# Altium footprint library DX_test_PcbLib1.PcbLib: 36 footprints (part 2 of 3)
Each footprint in its own frame and in the unit in brackets; x right, y up, seen from the top. Pads: shape width x height; smd on the part's side, far side on the other; paste and mask are expansions set on the pad; w line width, h text height; cw(c..) or ccw(c..) is an arc to the next point about the centre after c.
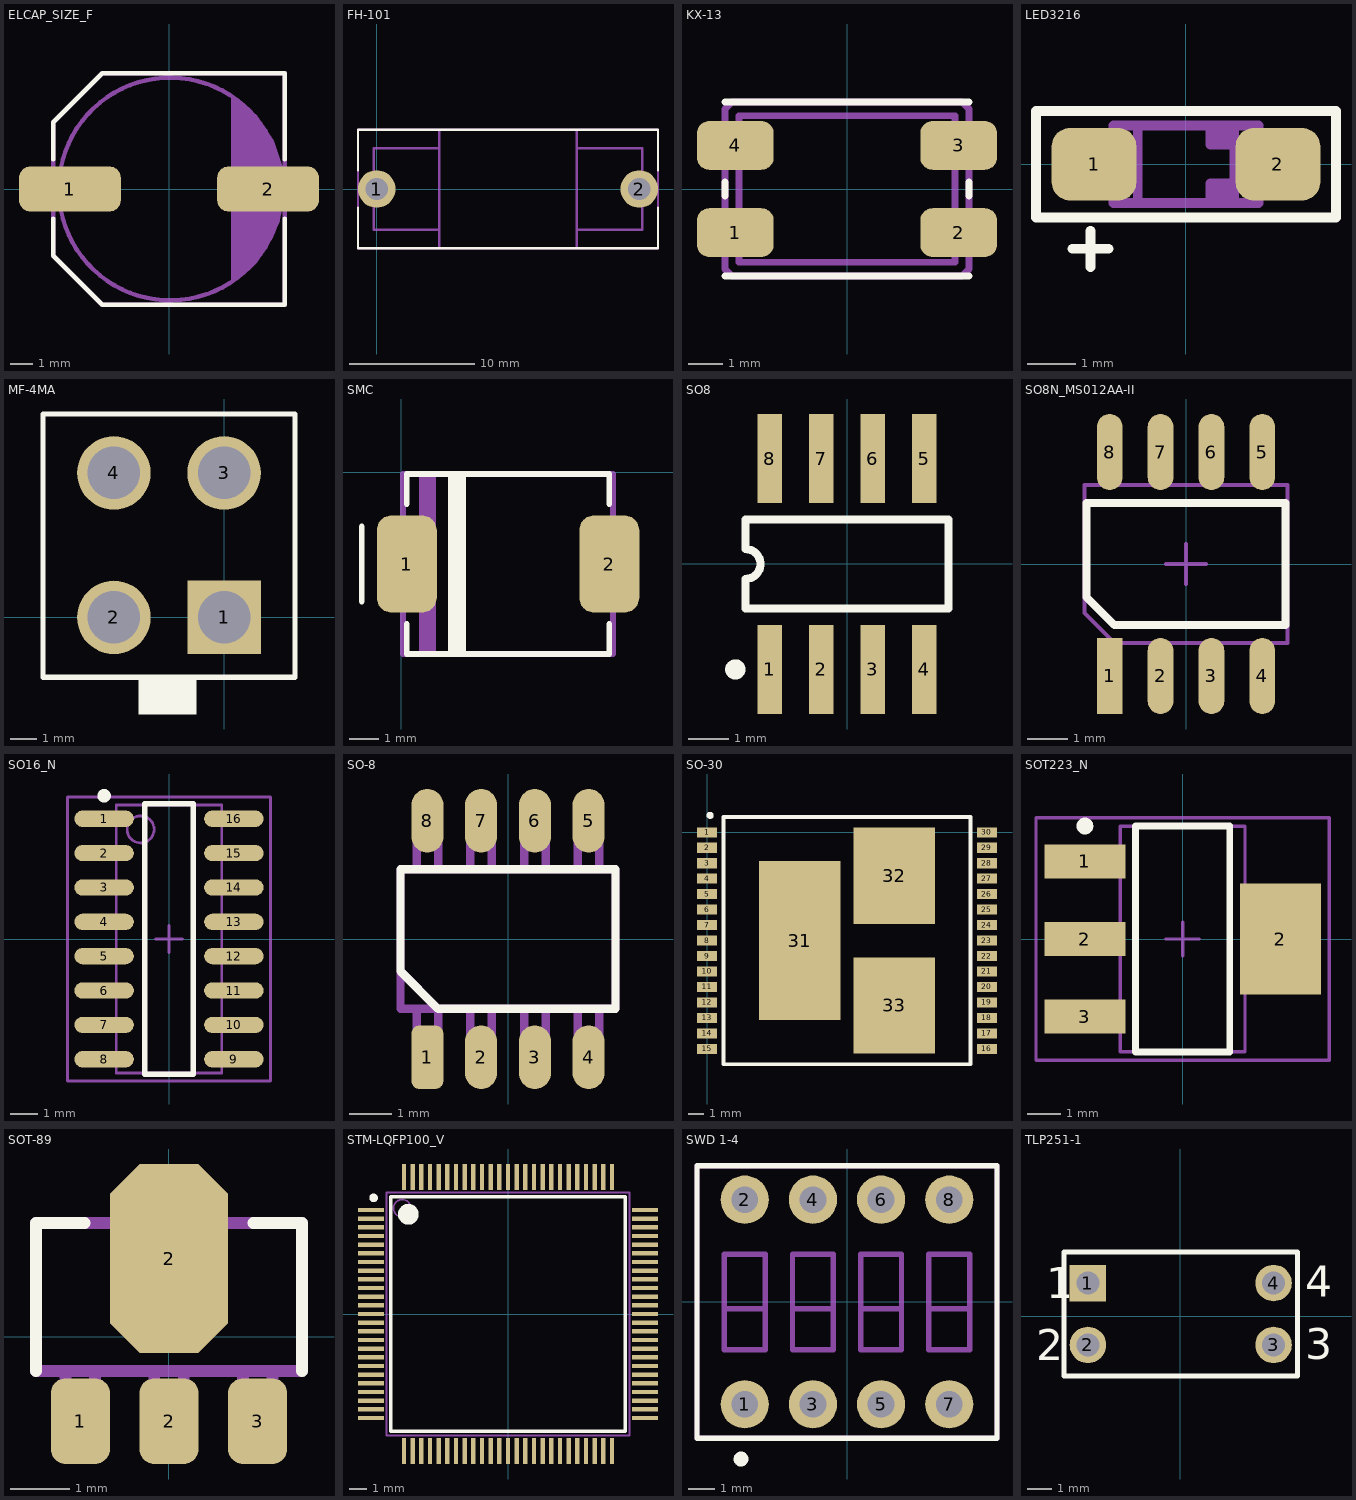
[diagram p1: the footprints below, top view; thin cyan lines are the x and y axes]

## ELCAP_SIZE_F [mm]
height 10.5
pads (2):
  rrect50% 4.57x2.03 smd: 1(-4.45,0) 2(4.45,0)
Top Overlay:
  lines w0.2: -5.2,-1.325 -5.2,-3 -3,-5.2 5.2,-5.2 5.2,-1.325 ; -5.2,1.325 -5.2,3 -3,5.2 5.2,5.2 5.2,1.325
Mechanical 1:
  circle w0.2: c0.055,0 r5
  region: 2.805,4.175 2.805,-4.25 3.429,-3.81 3.937,-3.302 4.445,-2.54 4.953,-1.524 5.08,-0.762 5.08,1.016 4.699,2.159 3.937,3.302 2.855,4.2
  lines w0.2: -5.2,-3 -3,-5.2 5.2,-5.2 5.2,5.2 -3,5.2 -5.2,3 -5.2,-3
3D body: height 10.41, standoff 0, extent -5.5,-5.2 5.5,5.2

## FH-101 [mm]
pads (2):
  round 3 hole 1.8: 1(0,0) 2(21,0)
Top Overlay:
  lines w0.2: -1.5,-1.5 -1.5,-4.75 22.5,-4.75 22.5,-1.5 ; -1.5,1.5 -1.5,4.75 22.5,4.75 22.5,1.5
Mechanical 1:
  lines w0.2: 5,-4.75 5,4.75 ; 5,-3.25 -0.25,-3.25 -0.25,3.25 5,3.25 ; 16,-4.75 16,4.75 ; 16,-3.25 21.25,-3.25 21.25,3.25 16,3.25 ; -1.5,-4.75 22.5,-4.75 22.5,4.75 -1.5,4.75 -1.5,-4.75
3D body: height 10.8, standoff -3, extent -1.625,-4.9 22.575,4.9

## KX-13 [mm]
pads (4):
  rrect50% 2.2x1.4 smd: 1(-3.2,-1.25) 2(3.2,-1.25) 3(3.2,1.25) 4(-3.2,1.25)
Top Overlay:
  lines w0.2: -3.5,-2.5 3.5,-2.5 ; -3.5,-0.2 -3.5,0.2 ; -3.5,2.5 3.5,2.5 ; 3.5,-0.2 3.5,0.2
Mechanical 1:
  lines w0.2: -3.5,-2.3 -3.3,-2.5 3.3,-2.5 3.5,-2.3 3.5,2.3 3.3,2.5 -3.3,2.5 -3.5,2.3 -3.5,-2.3 ; -3.1,-2.1 3.1,-2.1 3.1,2.1 -3.1,2.1 -3.1,-2.1
3D body: height 1.31, standoff 0, extent -3.5,-2.5 3.5,2.5

## LED3216 [mm]
height 1.1
pads (2):
  rrect50% 1.75x1.5 smd: 1(-1.9,0) 2(1.9,0)
Top Overlay:
  lines w0.2: -2.35,-1.75 -1.6,-1.75 ; -1.975,-2.125 -1.975,-1.375 ; -3.1,-1.1 -3.1,1.1 3.1,1.1 3.1,-1.1 -3.1,-1.1
Mechanical 1:
  lines w0.2: -1,-0.8 -1,0.8 ; 0.5,-0.8 0.5,-0.4 1,-0.4 ; 0.5,-0.6 1,-0.6 ; 0.5,0.6 1,0.6 ; 0.5,0.8 0.5,0.5 0.5,0.4 1,0.4 ; 1,-0.8 1,0.8 ; -1.5,-0.8 -1.5,0.8 1.5,0.8 1.5,-0.8 -1.5,-0.8
3D body: height 1.1, standoff 0, extent -1.6,-0.8 1.6,0.8

## MF-4MA [mm] "MF-4MA"
pads (4):
  rect 2.8x2.8 hole 2: 1(0,0)
  round 2.8 hole 2: 2(-4.2,0) 3(0,5.5) 4(-4.2,5.5)
Top Overlay:
  region: -3.259,-3.683 -3.259,-2.283 -1.059,-2.283 -1.059,-3.683
  lines w0.2: -6.9,-2.286 2.7,-2.286 2.7,7.747 -6.9,7.747 -6.9,-2.286
3D body: height 12.8, standoff -3.5, extent -7.3,-3.5 2.7,7.5

## SMC [mil] "SMC"
pads (2):
  rrect50% 80x130 smd: 1(7.13,-122.05) 2(277.13,-122.05)
Top Overlay:
  lines w7.87: -52.87,-172.05 -52.87,-72.05 ; 7.13,-202.05 7.13,-242.05 277.13,-242.05 277.13,-202.05 ; 7.13,-42.05 7.13,-2.05 277.13,-2.05 277.13,-42.05 ; 66.18,-242.05 66.18,-2.05 ; 74.06,-242.05 74.06,-2.05 ; 81.93,-242.05 81.93,-2.05
Mechanical 1:
  lines w7.87: 2.13,-181.1 -12.56,-181.1 -12.56,-62.99 2.13,-62.99 ; 27.13,-242.05 27.13,-2.05 ; 32.13,-242.05 32.13,-2.05 ; 37.13,-242.05 37.13,-2.05 ; 42.13,-242.05 42.13,-2.05 ; 282.13,-181.1 296.81,-181.1 296.81,-62.99 282.13,-62.99 ; 2.13,-242.05 282.13,-242.05 282.13,-2.05 2.13,-2.05 2.13,-242.05
3D body: height 90.73, standoff -0.02, extent -14.56,-238.19 298.44,-5.91

## SO8 [mm]
height 11.5
pads (8):
  rect 0.6x2.2 smd: 1(-1.905,-2.6) 2(-0.635,-2.6) 3(0.635,-2.6) 4(1.905,-2.6) 5(1.905,2.6) 6(0.635,2.6) 7(-0.635,2.6) 8(-1.905,2.6)
Top Overlay:
  circle w0.25: c-2.755,-2.6 r0.125
  lines w0.2: -2.5,-1.1 2.5,-1.1 2.5,1.1 -2.5,1.1 -2.5,0.367 cw(c-2.5,0) -2.5,-0.367 -2.5,-1.1

## SO8N_MS012AA-II [mm]
height 3.38
pads (8):
  rect 0.64x1.9 smd mask+0.075: 1(-1.905,-2.795)
  oval 0.64x1.9 smd mask+0.075: 2(-0.635,-2.795) 3(0.635,-2.795) 4(1.905,-2.795) 5(1.905,2.795) 6(0.635,2.795) 7(-0.635,2.795) 8(-1.905,2.795)
Top Overlay:
  lines w0.2: -2.489,-0.825 -2.489,1.524 2.489,1.524 2.489,-1.524 -1.79,-1.524 -2.489,-0.825
Mechanical 13:
  lines w0.1: -2.54,-1.22 -1.79,-1.97 2.54,-1.97 2.54,1.97 -2.54,1.97 -2.54,-1.22
Mechanical 15:
  lines w0.1: -0.5,0 0.5,0 ; 0,-0.5 0,0.5
3D body: height 3.61, standoff 0, extent -2.6,-2.03 2.6,2.03

## SO16_N [mm] "SOIC, 16-Leads, Body 9.9x3.9mm, Pitch 1.27mm, IPC Medium Density"
height 1.75
pads (16):
  oval 2.2x0.6 smd: 1(-2.4,4.445) 2(-2.4,3.175) 3(-2.4,1.905) 4(-2.4,0.635) 5(-2.4,-0.635) 6(-2.4,-1.905) 7(-2.4,-3.175) 8(-2.4,-4.445) 9(2.4,-4.445) 10(2.4,-3.175) 11(2.4,-1.905) 12(2.4,-0.635) 13(2.4,0.635) 14(2.4,1.905) 15(2.4,3.175) 16(2.4,4.445)
Top Overlay:
  circle w0.25: c-2.4,5.295 r0.125
  lines w0.2: -0.9,-5 -0.9,5 0.9,5 0.9,-5 -0.9,-5
Mechanical 13:
  circle w0.1: c-1.05,4.05 r0.5
  lines w0.1: -1.95,-4.625 -2.875,-4.625 -2.875,-4.275 -1.95,-4.275 ; -1.95,-3.35 -2.875,-3.35 -2.875,-3 -1.95,-3 ; -1.95,-2.075 -2.9,-2.075 -2.9,-1.725 -1.95,-1.725 ; -1.95,-0.8 -2.9,-0.8 -2.9,-0.45 -1.95,-0.45 ; -1.95,0.475 -2.9,0.475 -2.9,0.825 -1.95,0.825 ; -1.95,1.75 -2.9,1.75 -2.9,2.1 -1.95,2.1 ; -1.95,3 -2.9,3 -2.9,3.35 -1.95,3.35 ; -1.95,4.3 -2.9,4.3 -2.9,4.65 -1.95,4.65 ; 1.95,-4.6 2.9,-4.6 2.9,-4.25 1.95,-4.25 ; 1.95,-3.325 2.9,-3.325 2.9,-2.975 1.95,-2.975 ; 1.95,-2.025 2.9,-2.025 2.9,-1.675 1.95,-1.675 ; 1.95,-0.775 2.9,-0.775 2.9,-0.425 1.95,-0.425 ; 1.95,0.5 2.9,0.5 2.9,0.85 1.95,0.85 ; 1.95,1.775 2.9,1.775 2.9,2.125 1.95,2.125 ; 1.95,3.05 2.9,3.05 2.9,3.4 1.95,3.4 ; 1.95,4.325 2.875,4.325 2.875,4.675 1.95,4.675 ; -1.95,-4.95 -1.95,4.95 1.95,4.95 1.95,-4.95 -1.95,-4.95
  text ".Designator" at 0.6,-2.5 h3
Mechanical 15:
  lines w0.1: -0.5,0 0.5,0 ; 0,-0.5 0,0.5 ; -3.75,-5.25 -3.75,5.25 3.75,5.25 3.75,-5.25 -3.75,-5.25
3D body: height 1.75, standoff -0.02, extent -3.068,-4.985 3.068,4.985

## SO-8 [mm]
height 11.4
pads (8):
  rrect50% 0.76x1.5 smd: 1(-1.905,-2.794)
  oval 0.76x1.5 smd: 2(-0.635,-2.794) 3(0.635,-2.794) 4(1.905,-2.794) 5(1.905,2.794) 6(0.635,2.794) 7(-0.635,2.794) 8(-1.905,2.794)
Top Overlay:
  lines w0.2: -2.54,-0.762 -2.54,1.651 2.54,1.651 2.54,-1.651 -1.651,-1.651 -2.54,-0.762
Mechanical 1:
  lines w0.2: -2.54,-0.762 -1.651,-1.651 -1.651,-2.921 -2.159,-2.921 -2.159,-1.651 ; -2.159,1.651 -2.159,2.921 -1.651,2.921 -1.651,1.651 ; -0.889,-1.651 -0.889,-2.921 -0.381,-2.921 -0.381,-1.651 ; -0.889,1.651 -0.889,2.921 -0.381,2.921 -0.381,1.651 ; 0.381,-1.651 0.381,-2.921 0.889,-2.921 0.889,-1.651 ; 0.381,1.651 0.381,2.921 0.889,2.921 0.889,1.651 ; 1.651,-1.651 1.651,-2.921 2.159,-2.921 2.159,-1.651 ; 1.651,1.651 1.651,2.921 2.159,2.921 2.159,1.651 ; -2.54,-1.651 -2.54,1.651 2.54,1.651 2.54,-1.651 -2.54,-1.651
3D body: height 1.9, standoff 0, extent -2.504,-3.164 2.5,3.175

## SO-30 [mm]
pads (33):
  rect 1.3x0.65 smd: 1(0,0) 2(0,-1) 3(0,-2) 4(0,-3) 5(0,-4) 6(0,-5) 7(0,-6) 8(0,-7) 9(0,-8) 10(0,-9) 11(0,-10) 12(0,-11) 13(0,-12) 14(0,-13) 15(0,-14) 16(18.1,-14) 17(18.1,-13) 18(18.1,-12) 19(18.1,-11) 20(18.1,-10) 21(18.1,-9) 22(18.1,-8) 23(18.1,-7) 24(18.1,-6) 25(18.1,-5) 26(18.1,-4) 27(18.1,-3) 28(18.1,-2) 29(18.1,-1) 30(18.1,0)
  rect 5.25x10.3 smd: 31(6,-7)
  rect 5.25x6.23 smd: 32(12.1,-2.8) 33(12.1,-11.2)
Top Overlay:
  lines w0.254: 0.3,1.097 cw(c0.2,1.1) 0.3,1.11 ; 1.05,-15 17.05,-15 17.05,1 1.05,1 1.05,-15
3D body: height 2.27, standoff -0.19, extent -0.4,-15.6 18.6,1.6

## SOT223_N [mm] "SOT223, 4-Leads, Body 6.5x3.5mm, Pitch 2.3mm, Lead Span 7mm, IPC Medium Density"
height 1.7
pads (4):
  rect 2.4x1 smd: 1(-2.9,2.3) 2(-2.9,0) 3(-2.9,-2.3)
  rect 2.4x3.3 smd: 2(2.9,0)
Top Overlay:
  circle w0.25: c-2.9,3.35 r0.125
  lines w0.2: -1.4,-3.35 1.4,-3.35 1.4,3.35 -1.4,3.35 -1.4,-3.35
Mechanical 13:
  lines w0.1: -1.85,-3.35 1.85,-3.35 1.85,3.35 -1.85,3.35 -1.85,-3.35
Mechanical 15:
  lines w0.1: -0.5,0 0.5,0 ; 0,-0.5 0,0.5 ; -4.35,-3.6 4.35,-3.6 4.35,3.6 -4.35,3.6 -4.35,-3.6
3D body: height 1.7, standoff 0, extent -1.85,-3.35 1.85,3.35

## SOT-89 [mm]
pads (4):
  rrect50% 1x1.45 smd: 1(-1.5,-1.425) 2(0,-1.425) 3(1.5,-1.425)
  oct 2x3.2 smd: 2(0,1.325)
Top Overlay:
  lines w0.2: -2.25,-0.575 -2.25,1.925 -1.425,1.925 ; 1.425,1.925 2.25,1.925 2.25,-0.575
Mechanical 1:
  lines w0.2: -1.75,-0.575 -1.75,-1.575 -1.25,-1.575 -1.25,-0.575 ; -0.75,1.925 -0.75,2.175 -0.5,2.425 0.5,2.425 0.75,2.175 0.75,1.925 ; -0.25,-0.575 -0.25,-1.575 0.25,-1.575 0.25,-0.575 ; 1.25,-0.575 1.25,-1.575 1.75,-1.575 1.75,-0.575 ; -2.25,-0.575 -2.25,1.925 2.25,1.925 2.25,-0.575 -2.25,-0.575
3D body: height 1.51, standoff 0, extent -2.25,-1.625 2.25,2.675

## STM-LQFP100_V [mm] "Thin QFP, 100-Leads, Body 14x14mm, Pitch 0.5mm, ST Recommended"
height 1.6
pads (100):
  rect 1.5x0.25 smd mask+0.075: 1(-7.9,6) 2(-7.9,5.5) 3(-7.9,5) 4(-7.9,4.5) 5(-7.9,4) 6(-7.9,3.5) 7(-7.9,3) 8(-7.9,2.5) 9(-7.9,2) 10(-7.9,1.5) 11(-7.9,1) 12(-7.9,0.5) 13(-7.9,0) 14(-7.9,-0.5) 15(-7.9,-1) 16(-7.9,-1.5) 17(-7.9,-2) 18(-7.9,-2.5) 19(-7.9,-3) 20(-7.9,-3.5) 21(-7.9,-4) 22(-7.9,-4.5) 23(-7.9,-5) 24(-7.9,-5.5) 25(-7.9,-6) 51(7.9,-6) 52(7.9,-5.5) 53(7.9,-5) 54(7.9,-4.5) 55(7.9,-4) 56(7.9,-3.5) 57(7.9,-3) 58(7.9,-2.5) 59(7.9,-2) 60(7.9,-1.5) 61(7.9,-1) 62(7.9,-0.5) 63(7.9,0) 64(7.9,0.5) 65(7.9,1) 66(7.9,1.5) 67(7.9,2) 68(7.9,2.5) 69(7.9,3) 70(7.9,3.5) 71(7.9,4) 72(7.9,4.5) 73(7.9,5) 74(7.9,5.5) 75(7.9,6)
  rect 0.25x1.5 smd mask+0.075: 26(-6,-7.9) 27(-5.5,-7.9) 28(-5,-7.9) 29(-4.5,-7.9) 30(-4,-7.9) 31(-3.5,-7.9) 32(-3,-7.9) 33(-2.5,-7.9) 34(-2,-7.9) 35(-1.5,-7.9) 36(-1,-7.9) 37(-0.5,-7.9) 38(0,-7.9) 39(0.5,-7.9) 40(1,-7.9) 41(1.5,-7.9) 42(2,-7.9) 43(2.5,-7.9) 44(3,-7.9) 45(3.5,-7.9) 46(4,-7.9) 47(4.5,-7.9) 48(5,-7.9) 49(5.5,-7.9) 50(6,-7.9) 76(6,7.9) 77(5.5,7.9) 78(5,7.9) 79(4.5,7.9) 80(4,7.9) 81(3.5,7.9) 82(3,7.9) 83(2.5,7.9) 84(2,7.9) 85(1.5,7.9) 86(1,7.9) 87(0.5,7.9) 88(0,7.9) 89(-0.5,7.9) 90(-1,7.9) 91(-1.5,7.9) 92(-2,7.9) 93(-2.5,7.9) 94(-3,7.9) 95(-3.5,7.9) 96(-4,7.9) 97(-4.5,7.9) 98(-5,7.9) 99(-5.5,7.9) 100(-6,7.9)
Top Overlay:
  circle w0.6: c-5.75,5.75 r0.3
  circle w0.25: c-7.75,6.7 r0.125
  lines w0.2: -6.75,-6.75 6.75,-6.75 6.75,6.75 -6.75,6.75 -6.75,-6.75
Mechanical 13:
  circle w0.1: c-6.1,6.1 r0.5
  lines w0.1: -7,-7 7,-7 7,7 -7,7 -7,-7
3D body: height 1.6, standoff 0, extent -8,-8 8,8

## SWD 1-4 [mm] "DIP переключатель"
pads (8):
  round 1.8 hole 1: 1(-3.81,-3.81) 2(-3.81,3.81) 3(-1.27,-3.81) 4(-1.27,3.81) 5(1.27,-3.81) 6(1.27,3.81) 7(3.81,-3.81) 8(3.81,3.81)
Top Overlay:
  circle w0.3: c-3.947,-5.852 r0.125
  lines w0.2: -5.588,-5.08 5.588,-5.08 5.588,5.08 -5.588,5.08 -5.588,-5.08
Mechanical 1:
  lines w0.2: -4.572,-0.254 -3.048,-0.254 ; -2.032,-0.254 -0.508,-0.254 ; 0.508,-0.254 2.032,-0.254 ; 3.048,-0.254 4.572,-0.254 ; -5.588,-5.08 5.588,-5.08 5.588,5.08 -5.588,5.08 -5.588,-5.08 ; -4.572,-1.778 -3.048,-1.778 -3.048,1.778 -4.572,1.778 -4.572,-1.778 ; -2.032,-1.778 -0.508,-1.778 -0.508,1.778 -2.032,1.778 -2.032,-1.778 ; 0.508,-1.778 0.508,1.778 2.032,1.778 2.032,-1.778 0.508,-1.778 ; 3.048,-1.778 3.048,1.778 4.572,1.778 4.572,-1.778 3.048,-1.778
  text "ON" at -5.6,5.832 h1.4
3D body: height 3.3, standoff -0.9, extent -5.125,-3.91 5.035,3.71

## TLP251-1 [mm] "Оптопара одноканальная TLP251-1"
pads (4):
  rect 1.5x1.5 hole 0.95: 1(-3.785,1.372)
  round 1.5 hole 0.95: 2(-3.785,-1.168) 3(3.835,-1.168) 4(3.835,1.372)
Top Overlay:
  lines w0.2: -4.765,-2.438 4.815,-2.438 4.815,2.642 -4.765,2.642 -4.765,-2.438
  text "3" at 5.125,-1.758 h1.27
  text "4" at 5.125,0.812 h1.27
  text "2" at -5.915,-1.798 h1.27
  text "1" at -5.485,0.752 h1.27
3D body: height 3.83, standoff 0.08, extent -4.187,-2.163 4.39,2.417